# Altium footprint library Arbitrary-Waveform-Generator.PcbLib: 27 footprints (part 1 of 2)
Each footprint in its own frame and in the unit in brackets; x right, y up, seen from the top. Pads: shape width x height; smd on the part's side, far side on the other; paste and mask are expansions set on the pad; w line width, h text height; cw(c..) or ccw(c..) is an arc to the next point about the centre after c.
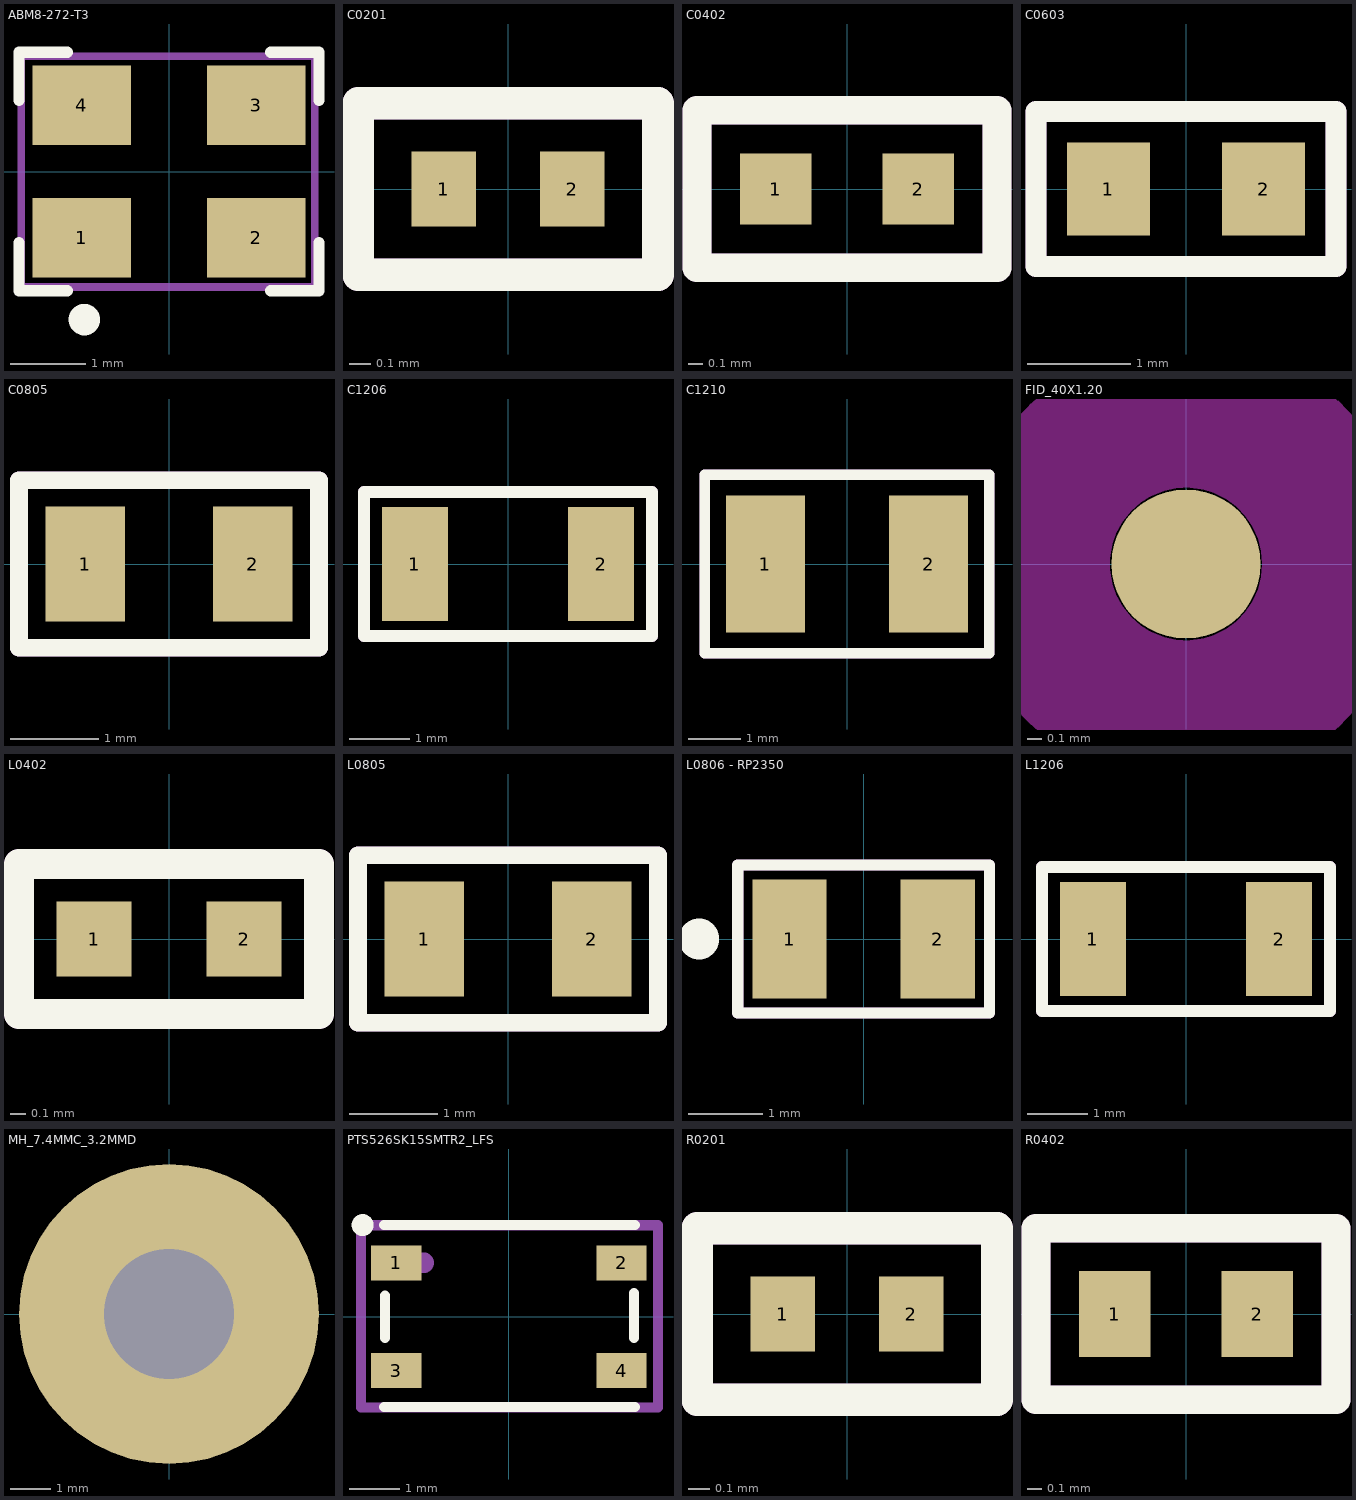
[diagram p0: the footprints below, top view; thin cyan lines are the x and y axes]

## ABM8-272-T3 [mm]
pads (4):
  rect 1.3x1.05 smd: 1(-1.15,-0.875) 2(1.15,-0.875) 3(1.15,0.875) 4(-1.15,0.875)
Top Overlay:
  circle w0.254: c-1.118,-1.956 r0.08
  lines w0.15: -1.981,-0.94 -1.981,-1.575 -1.346,-1.575 ; -1.981,0.94 -1.981,1.575 -1.346,1.575 ; 1.346,-1.575 1.981,-1.575 1.981,-0.94 ; 1.346,1.575 1.981,1.575 1.981,0.94
Mechanical 29:
  circle w0.254: c-1.075,-0.775 r0.071
  lines w0.1: -1.95,-1.525 1.925,-1.525 1.925,1.525 -1.95,1.525 -1.95,-1.525
  text "'.Designator'" at -0.7,-0.5 h0.7
3D body "ABM8-272-T3.stp": height 0.75, standoff 0, extent -1.6,-1.25 1.6,1.25

## C0201 [mm]
pads (2):
  rect 0.3x0.35 smd mask+0.06: 1(-0.3,0) 2(0.3,0)
Top Overlay:
  lines w0.15: -0.7,-0.4 0.7,-0.4 0.7,0.4 -0.7,0.4 -0.7,-0.4
Mechanical 29:
  lines w0.15: -0.7,-0.4 -0.7,0.4 0.7,0.4 0.7,-0.4 -0.7,-0.4
  text "'.Designator'" at -0.4,-0.1 h0.2
3D body "C0201.step": height 0.3, standoff 0, extent -0.3,-0.15 0.3,0.15

## C0402 [mm]
pads (2):
  rect 0.5x0.5 smd: 1(-0.5,0) 2(0.5,0)
Top Overlay:
  lines w0.2: -1.05,-0.55 1.05,-0.55 1.05,0.55 -1.05,0.55 -1.05,-0.55
Mechanical 29:
  lines w0.2: -1.05,-0.55 -1.05,0.55 1.05,0.55 1.05,-0.55 -1.05,-0.55
  text "'.Designator'" at -0.717,-0.25 h0.5
3D body "C0402.step": height 0.51, standoff 0.01, extent -0.5,-0.25 0.5,0.25

## C0603 [mm]
pads (2):
  rect 0.8x0.9 smd: 1(-0.75,0) 2(0.75,0)
Top Overlay:
  lines w0.2: -1.45,-0.75 1.45,-0.75 1.45,0.75 -1.45,0.75 -1.45,-0.75
Mechanical 29:
  lines w0.2: -1.45,-0.75 1.45,-0.75 1.45,0.75 -1.45,0.75 -1.45,-0.75
  text "'.Designator'" at -0.7,-0.3 h0.6
3D body "C0603.step": height 0.81, standoff 0.01, extent -0.8,-0.43 0.8,0.43

## C0805 [mm]
pads (2):
  rect 0.9x1.3 smd: 1(-0.95,0) 2(0.95,0)
Top Overlay:
  lines w0.2: -1.7,-0.95 -1.7,0.95 1.7,0.95 1.7,-0.95 -1.7,-0.95
Mechanical 29:
  lines w0.2: -1.7,-0.95 1.7,-0.95 1.7,0.95 -1.7,0.95 -1.7,-0.95
  text "'.Designator'" at -1.2,-0.4 h0.85
3D body "C0805.step": height 1, standoff 0, extent -1,-0.625 1,0.625

## C1206 [mm] "Chip Capacitor, 2-Leads, Body 3.20x1.60mm, IPC Medium Density"
height 0.95
pads (2):
  rect 1.1x1.9 smd: 1(-1.55,0) 2(1.55,0)
Top Overlay:
  lines w0.2: -2.4,-1.2 2.4,-1.2 2.4,1.2 -2.4,1.2 -2.4,-1.2
Mechanical 29:
  lines w0.2: -2.4,-1.2 -2.4,1.2 2.4,1.2 2.4,-1.2 -2.4,-1.2
  text "'.Designator'" at -1.4,-0.5 h1
3D body "C1206.step": height 0.95, standoff 0, extent -1.7,-0.9 1.7,0.9

## C1210 [mm]
pads (2):
  rect 1.5x2.6 smd: 1(-1.55,0) 2(1.55,0)
Top Overlay:
  lines w0.2: -2.7,-1.7 2.7,-1.7 2.7,1.7 -2.7,1.7 -2.7,-1.7
Mechanical 29:
  lines w0.2: -2.7,-1.7 -2.7,1.7 2.7,1.7 2.7,-1.7 -2.7,-1.7
  text "'.Designator'" at -1.4,-0.6 h1.2
3D body "C1210.step": height 1.8, standoff 0, extent -1.6,-1.25 1.6,1.25

## FID_40X1.20 [mil]
pads (1):
  round 40 smd paste-40 mask+40: ""(0,0)
Top Layer keep-out:
  circle w39.37: c0,0 r40.16

## L0402 [mm]
pads (2):
  rect 0.5x0.5 smd: 1(-0.5,0) 2(0.5,0)
Top Overlay:
  lines w0.2: -1,-0.5 -1,0.5 1,0.5 1,-0.5 -1,-0.5
Mechanical 29:
  lines w0.2: -1,-0.5 1,-0.5 1,0.5 -1,0.5 -1,-0.5
  text "'.Designator'" at -0.75,-0.169 h0.5
3D body "L0805.step": height 0.51, standoff 0.01, extent -0.5,-0.3 0.5,0.3

## L0805 [mm]
pads (2):
  rect 0.9x1.3 smd: 1(-0.95,0) 2(0.95,0)
Top Overlay:
  lines w0.2: -1.7,-0.95 1.7,-0.95 1.7,0.95 -1.7,0.95 -1.7,-0.95
Mechanical 29:
  lines w0.2: -1.7,-0.95 -1.7,0.95 1.7,0.95 1.7,-0.95 -1.7,-0.95
  text "'.Designator'" at -1.3,-0.4 h0.85
3D body "L0805.step": height 1.05, standoff 0, extent -1,-0.625 1,0.625

## L0806 - RP2350 [mm]
pads (2):
  rect 1x1.6 smd: 1(-1,0) 2(1,0)
Top Overlay:
  circle w0.5: c-2.225,0 r0.025
  lines w0.15: -1.7,-1 1.7,-1 1.7,1 -1.7,1 -1.7,-1
Mechanical 29:
  circle w0.254: c-1.1,-0.4 r0.141
  lines w0.15: -1.7,-1 1.7,-1 1.7,1 -1.7,1 -1.7,-1
  text "'.Designator'" at -0.6,-0.1 h0.85
3D body "AOTA-B201610S3R3-101-T.stp": height 1, standoff 0, extent -1,-0.8 1,0.8

## L1206 [mm] "Chip Capacitor, 2-Leads, Body 3.20x1.60mm, IPC Medium Density"
height 0.95
pads (2):
  rect 1.1x1.9 smd: 1(-1.55,0) 2(1.55,0)
Top Overlay:
  lines w0.2: -2.4,-1.2 -2.4,1.2 2.4,1.2 2.4,-1.2 -2.4,-1.2
Mechanical 29:
  lines w0.2: -2.4,-1.2 2.4,-1.2 2.4,1.2 -2.4,1.2 -2.4,-1.2
  text "'.Designator'" at -1.4,-0.5 h1
3D body "L1206.step": height 1.1, standoff 0, extent -1.7,-0.9 1.7,0.9

## MH_7.4MMC_3.2MMD [mm]
pads (1):
  round 7.4 hole 3.2: ""(0,0)

## PTS526SK15SMTR2_LFS [mm]
pads (4):
  rect 1x0.7 smd: 1(-2.25,1.075) 2(2.25,1.075) 3(-2.25,-1.075) 4(2.25,-1.075)
Top Overlay:
  circle w0.254: c-2.921,1.829 r0.092
  lines w0.2: -2.489,-1.803 -2.464,-1.803 2.515,-1.803 ; -2.489,1.829 2.489,1.829 2.515,1.829 ; -2.475,-0.425 -2.475,0.425 ; 2.5,-0.425 2.5,0.475
Mechanical 29:
  circle w0.254: c-1.704,1.075 r0.08
  lines w0.2: -2.95,-1.813 2.975,-1.813 2.975,1.825 -2.95,1.825 -2.95,-1.813
  text "'.Designator'" at -0.838,-0.051 h1
3D body "PTS815SJM250SMTRLFS.stp": height 2.5, standoff 0, extent -2.253,-1.592 2.247,1.608

## R0201 [mm]
pads (2):
  rect 0.3x0.35 smd mask+0.06: 1(-0.3,0) 2(0.3,0)
Top Overlay:
  lines w0.15: -0.7,-0.4 0.7,-0.4 0.7,0.4 -0.7,0.4 -0.7,-0.4
Mechanical 29:
  lines w0.15: -0.7,-0.4 -0.7,0.4 0.7,0.4 0.7,-0.4 -0.7,-0.4
  text "'.Designator'" at -0.4,-0.1 h0.2
3D body "C0201.step": height 0.3, standoff 0, extent -0.3,-0.15 0.3,0.15

## R0402 [mm]
pads (2):
  rect 0.5x0.6 smd: 1(-0.5,0) 2(0.5,0)
Top Overlay:
  lines w0.2: -1.05,-0.6 1.05,-0.6 1.05,0.6 -1.05,0.6 -1.05,-0.6
Mechanical 29:
  lines w0.2: -1.05,-0.6 1.05,-0.6 1.05,0.6 -1.05,0.6 -1.05,-0.6
  text "'.Designator'" at -0.75,-0.223 h0.5
3D body "R0402.step": height 0.41, standoff 0.01, extent -0.5,-0.25 0.5,0.25